# Altium schematic symbol library SCH_Capacitors.SchLib: 13 symbols
Pins are listed as number, name and electrical type; pins without a type are passive.

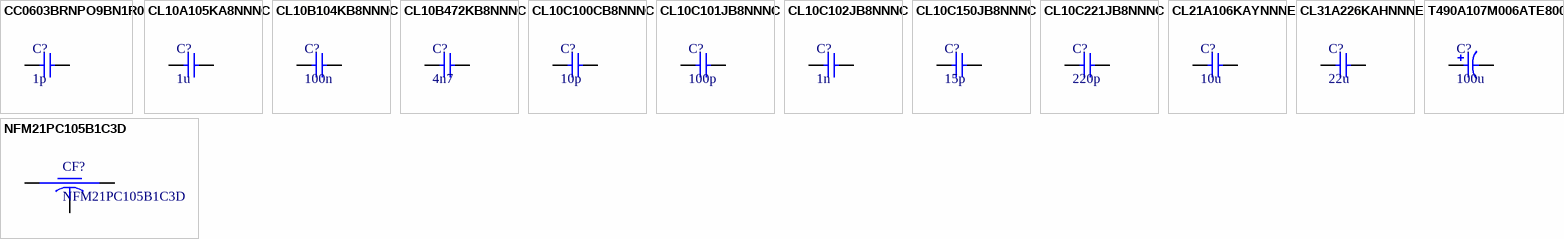
[diagram p0: symbols CC0603BRNPO9BN1R0 to T490A107M006ATE800]

## CC0603BRNPO9BN1R0
designator C?, comment 1p
CAP CER 1PF 50V NPO 0603; Manufacturer: Yageo; Manufacturer Part Number: CC0603BRNPO9BN1R0; Dielectric: C0G; Supplier 1: Digi-Key; RoHS: Yes; Category: Ceramic Capacitors; Stock 1: 35981; Pricing 1: 1=0,10000, 10=0,07700, 50=0,04180, 100=0,03420, 500=0,02442, 1000=0,01919 (USD); Mount: Surface Mount; Case/Package: 0603; Case Code (Imperial): 0603; Case Code (Metric): 1608; Weight: 7.1E-05oz; Min Operating Temperature: -55°C; Max Operating Temperature: 125°C; Capacitance: 1pF; Packaging: Tape and Reel; Voltage Rating: 50V; Voltage Rating (DC): 50V; Termination: SMD/SMT; Resistor Type: Ceramic; Series: CC; Length: 1.6mm; Width: 0.031inch; Thickness: 0.035inch; Depth: 0.8mm; Radiation Hardening: No; Lead Free: Lead Free; RoHS Compliant: Yes; ComponentLink1URL: https://datasheet.ciiva.com/13264/upy-gp-np0-16v-to-50v-8-3714-13264551.pdf?src-supplier=Mouser; ComponentLink1Description: https://datasheet.ciiva.com/13264/upy-gp-np0-16v-to-50v-8-3714-13264551.pdf?src-supplier=Mouser; ComponentLink2URL: https://datasheet.ciiva.com/11587/upy-gp-np0-16v-to-50v-8-11587308.pdf?src-supplier=Avnet; ComponentLink2Description: https://datasheet.ciiva.com/11587/upy-gp-np0-16v-to-50v-8-11587308.pdf?src-supplier=Avnet; Supplier Part Number 1: 311-3346-1-ND
footprint C0603
pins: 1, 2

## CL10A105KA8NNNC
designator C?, comment 1u
CAP CER 1UF 25V X5R 0603; Manufacturer: Samsung; Manufacturer Part Number: CL10A105KA8NNNC; Material: Ceramic; Tolerance: 10%; RoHS: Yes; Category: Ceramic Capacitors; Stock 1: 556306; Pricing 1: 1=0,10000, 10=0,03100, 50=0,01720, 100=0,01400, 500=0,01000, 1000=0,00786 (USD); Mount: Surface Mount; Case/Package: 0603; Case Code (Metric): 1608; Case Code (Imperial): 0603; Contact Plating: Tin; Min Operating Temperature: -55°C; Max Operating Temperature: 85°C; Capacitance: 1uF; Dielectric: X5R; Voltage: 25V; Voltage Rating (DC): 25V; Packaging: Tape and Reel; Package Quantity: 1; Voltage Rating: 25V; Series: CL; Length: 0.063inch; Width: 0.031inch; Height: 0.8mm; Depth: 0.8mm; Thickness: 0.035inch; Radiation Hardening: No; Lead Free: Lead Free; RoHS Compliant: Yes; ComponentLink1URL: https://datasheet.ciiva.com/25801/cl10a105ka8nnnc-25801364.pdf?src-supplier=Digi-Key; ComponentLink1Description: https://datasheet.ciiva.com/25801/cl10a105ka8nnnc-25801364.pdf?src-supplier=Digi-Key; ComponentLink2URL: https://datasheet.ciiva.com/26838/getdatasheetpartid-357530-26838332.pdf?src-supplier=Verical; ComponentLink2Description: https://datasheet.ciiva.com/26838/getdatasheetpartid-357530-26838332.pdf?src-supplier=Verical; ComponentLink3URL: https://datasheet.ciiva.com/29198/458162-da-01-en-vs-kondensator-0603-29198475.pdf?src-supplier=Conrad; ComponentLink3Description: https://datasheet.ciiva.com/29198/458162-da-01-en-vs-kondensator-0603-29198475.pdf?src-supplier=Conrad; Supplier 1: LCSC; Supplier 2: Digi-Key; Supplier Part Number 1: C15849; Supplier Part Number 2: 1276-1102-1-ND
footprint C0603
pins: 1, 2

## CL10B104KB8NNNC
designator C?, comment 100n
CAP CER 100NF 50V X7R 0603; Manufacturer: Samsung; Manufacturer Part Number: CL10B104KB8NNNC; Material: Ceramic; Tolerance: 10%; RoHS: Yes; Category: Ceramic Capacitors; Stock 1: 20397829; Pricing 1: 1=0,10000, 10=0,02700, 50=0,01460, 100=0,01200, 500=0,00856, 1000=0,00672 (USD); Mount: Surface Mount; Case/Package: 0603; Case Code (Metric): 1608; Case Code (Imperial): 0603; Contact Plating: Tin; Min Operating Temperature: -55°C; Max Operating Temperature: 125°C; Capacitance: 100nF; Dielectric: X7R; Voltage Rating: 50V; Package Quantity: 1; Packaging: Tape and Reel; Voltage: 50V; Voltage Rating (DC): 50V; Series: CL; Construction: Flat; Length: 1.6mm; Width: 0.031inch; Height: 0.8mm; Depth: 0.8mm; Thickness: 0.035inch; Radiation Hardening: No; Lead Free: Lead Free; RoHS Compliant: Yes; ComponentLink1URL: https://datasheet.ciiva.com/25803/cl10b104kb8nnnc-25803393.pdf?src-supplier=Digi-Key; ComponentLink1Description: https://datasheet.ciiva.com/25803/cl10b104kb8nnnc-25803393.pdf?src-supplier=Digi-Key; ComponentLink2URL: https://datasheet.ciiva.com/26838/getdatasheetpartid-89097-26838411.pdf?src-supplier=Verical; ComponentLink2Description: https://datasheet.ciiva.com/26838/getdatasheetpartid-89097-26838411.pdf?src-supplier=Verical; ComponentLink3URL: https://datasheet.ciiva.com/29198/456651-da-01-en-vs-kondensator-0605-29198839.pdf?src-supplier=Conrad; ComponentLink3Description: https://datasheet.ciiva.com/29198/456651-da-01-en-vs-kondensator-0605-29198839.pdf?src-supplier=Conrad; Supplier 1: LCSC; Supplier 2: Digi-Key; Supplier Part Number 1: C1591; Supplier Part Number 2: 1276-1000-1-ND
footprint C0603
pins: 1, 2

## CL10B472KB8NNNC
designator C?, comment 4n7
CAP CER 4.7NF 50V X7R 0603; Manufacturer: Samsung; Manufacturer Part Number: CL10B472KB8NNNC; Material: Ceramic; Tolerance: 5%; Dielectric: C0G; Supplier 1: Digi-Key; RoHS: Yes; Category: Ceramic Capacitors; Stock 1: 4684785; Pricing 1: 1=0,10000, 10=0,02700, 50=0,01460, 100=0,01200, 500=0,00856, 1000=0,00672 (USD); Mount: Surface Mount; Case/Package: 0603; Case Code (Metric): 1608; Case Code (Imperial): 0603; Contact Plating: Tin; Min Operating Temperature: -55°C; Max Operating Temperature: 125°C; Capacitance: 4.7nF; Voltage: 50V; Voltage Rating (DC): 50V; Packaging: Tape and Reel; Voltage Rating: 50V; Series: CL; Construction: Flat; Length: 1.6mm; Width: 0.031inch; Height: 0.8mm; Depth: 0.8mm; Thickness: 0.035inch; Radiation Hardening: No; Lead Free: Lead Free; RoHS Compliant: Yes; ComponentLink1URL: https://datasheet.ciiva.com/25709/cl10b472kb8nnnc-25709729.pdf?src-supplier=Digi-Key; ComponentLink1Description: https://datasheet.ciiva.com/25709/cl10b472kb8nnnc-25709729.pdf?src-supplier=Digi-Key; ComponentLink2URL: https://datasheet.ciiva.com/15195/getdatasheetpartid-359559-15195760.pdf?src-supplier=Verical; ComponentLink2Description: https://datasheet.ciiva.com/15195/getdatasheetpartid-359559-15195760.pdf?src-supplier=Verical; ComponentLink3URL: https://datasheet.ciiva.com/29198/457744-da-01-en-vs-kondensator-0603-29198688.pdf?src-supplier=Conrad; ComponentLink3Description: https://datasheet.ciiva.com/29198/457744-da-01-en-vs-kondensator-0603-29198688.pdf?src-supplier=Conrad; ComponentLink4URL: https://datasheet.ciiva.com/26310/mlcc-catalogdownload2013-eng-26310293.pdf?src-supplier=Distrelec; ComponentLink4Description: https://datasheet.ciiva.com/26310/mlcc-catalogdownload2013-eng-26310293.pdf?src-supplier=Distrelec; ComponentLink5URL: https://datasheet.ciiva.com/16382/cl05b104kq5nnnc-16382821.pdf?src-supplier=Future+Electronics; ComponentLink5Description: https://datasheet.ciiva.com/16382/cl05b104kq5nnnc-16382821.pdf?src-supplier=Future+Electronics; Supplier Part Number 1: 1276-1098-1-ND
footprint C0603
pins: 1, 2

## CL10C100CB8NNNC
designator C?, comment 10p
CAP CER 10PF 50V NP0 0603; Manufacturer: Samsung; Manufacturer Part Number: CL10C100CB8NNNC; Material: Ceramic; Dielectric: C0G; Temperature Coefficient: 300ppm/°C; Supplier 1: Digi-Key; RoHS: Yes; Category: Ceramic Capacitors; Stock 1: 241733; Pricing 1: 1=0,10000, 10=0,03000, 50=0,01620, 100=0,01320, 500=0,00944, 1000=0,00742 (USD); Mount: Surface Mount; Case/Package: 0603; Case Code (Metric): 1608; Case Code (Imperial): 0603; Min Operating Temperature: -55°C; Max Operating Temperature: 125°C; Packaging: Tape and Reel; Capacitance: 10pF; Package Quantity: 1; Voltage Rating: 50V; Voltage: 50V; Voltage Rating (DC): 50V; Series: CL; Construction: Flat; Length: 1.6mm; Width: 0.031inch; Height: 0.8mm; Thickness: 0.035inch; Depth: 0.8mm; Radiation Hardening: No; Lead Free: Lead Free; RoHS Compliant: Yes; ComponentLink1URL: https://datasheet.ciiva.com/15195/getdatasheetpartid-558381-15195779.pdf?src-supplier=Verical; ComponentLink1Description: https://datasheet.ciiva.com/15195/getdatasheetpartid-558381-15195779.pdf?src-supplier=Verical; ComponentLink2URL: https://datasheet.ciiva.com/29198/457398-da-01-en-vs-kondensator-0603-29198798.pdf?src-supplier=Conrad; ComponentLink2Description: https://datasheet.ciiva.com/29198/457398-da-01-en-vs-kondensator-0603-29198798.pdf?src-supplier=Conrad; ComponentLink3URL: https://datasheet.ciiva.com/16205/cl05b104kq5nnnc-16205295.pdf?src-supplier=Future+Electronics; ComponentLink3Description: https://datasheet.ciiva.com/16205/cl05b104kq5nnnc-16205295.pdf?src-supplier=Future+Electronics; Supplier Part Number 1: 1276-1069-1-ND
footprint C0603
pins: 1, 2

## CL10C101JB8NNNC
designator C?, comment 100p
CAP CER 100PF 50V NP0 0603; Manufacturer: Samsung; Manufacturer Part Number: CL10C101JB8NNNC; Material: Ceramic; Tolerance: 5%; Dielectric: C0G; Temperature Coefficient: 300ppm/°C; RoHS: Yes; Category: Ceramic Capacitors; Stock 1: 901057; Pricing 1: 1=0,10000, 10=0,02700, 50=0,01500, 100=0,01220, 500=0,00874, 1000=0,00686 (USD); Mount: Surface Mount; Case/Package: 0603; Case Code (Metric): 1608; Case Code (Imperial): 0603; Contact Plating: Tin; Min Operating Temperature: -55°C; Max Operating Temperature: 125°C; Capacitance: 100pF; Voltage: 50V; Voltage Rating (DC): 50V; Packaging: Tape and Reel; Package Quantity: 1; Voltage Rating: 50V; Series: CL; Construction: Flat; Length: 1.6mm; Width: 0.031inch; Height: 0.8mm; Depth: 0.8mm; Thickness: 0.035inch; Radiation Hardening: No; Lead Free: Lead Free; RoHS Compliant: Yes; ComponentLink1URL: https://datasheet.ciiva.com/25782/cl10c101jb8nnnc-25782145.pdf?src-supplier=Digi-Key; ComponentLink1Description: https://datasheet.ciiva.com/25782/cl10c101jb8nnnc-25782145.pdf?src-supplier=Digi-Key; ComponentLink2URL: https://datasheet.ciiva.com/26838/getdatasheetpartid-358356-26838483.pdf?src-supplier=Verical; ComponentLink2Description: https://datasheet.ciiva.com/26838/getdatasheetpartid-358356-26838483.pdf?src-supplier=Verical; ComponentLink3URL: https://datasheet.ciiva.com/29199/456574-da-01-en-vs-kondensator-0603-29199002.pdf?src-supplier=Conrad; ComponentLink3Description: https://datasheet.ciiva.com/29199/456574-da-01-en-vs-kondensator-0603-29199002.pdf?src-supplier=Conrad; ComponentLink4URL: https://datasheet.ciiva.com/26310/mlcc-catalogdownload2013-eng-26310303.pdf?src-supplier=Distrelec; ComponentLink4Description: https://datasheet.ciiva.com/26310/mlcc-catalogdownload2013-eng-26310303.pdf?src-supplier=Distrelec; Supplier 1: LCSC; Supplier 2: Digi-Key; Supplier Part Number 1: C14858; Supplier Part Number 2: 1276-1008-1-ND
footprint C0603
pins: 1, 2

## CL10C102JB8NNNC
designator C?, comment 1n
CAP CER 1NF 50V NP0 0603; Manufacturer: Samsung; Manufacturer Part Number: CL10C102JB8NNNC; Material: Ceramic; Tolerance: 5%; Dielectric: C0G; Temperature Coefficient: 300ppm/°C; Supplier 1: Digi-Key; RoHS: Yes; Category: Ceramic Capacitors; Stock 1: 2570050; Pricing 1: 1=0,10000, 10=0,03000, 50=0,01640, 100=0,01330, 500=0,00950, 1000=0,00747 (USD); Mount: Surface Mount; Case/Package: 0603; Case Code (Metric): 1608; Case Code (Imperial): 0603; Min Operating Temperature: -55°C; Max Operating Temperature: 125°C; Capacitance: 1nF; Voltage: 50V; Voltage Rating (DC): 50V; Voltage Rating: 50V; Packaging: Tape and Reel; Package Quantity: 1; Series: CL; Length: 1.6mm; Width: 0.031inch; Height: 0.8mm; Depth: 0.8mm; Thickness: 0.035inch; Radiation Hardening: No; Lead Free: Lead Free; RoHS Compliant: Yes; ComponentLink1URL: https://datasheet.ciiva.com/15195/getdatasheetpartid-354056-15195790.pdf?src-supplier=Verical; ComponentLink1Description: https://datasheet.ciiva.com/15195/getdatasheetpartid-354056-15195790.pdf?src-supplier=Verical; ComponentLink2URL: https://datasheet.ciiva.com/29198/458273-da-01-en-vs-kondensator-0603-29198494.pdf?src-supplier=Conrad; ComponentLink2Description: https://datasheet.ciiva.com/29198/458273-da-01-en-vs-kondensator-0603-29198494.pdf?src-supplier=Conrad; ComponentLink3URL: https://datasheet.ciiva.com/26310/mlcc-catalogdownload2013-eng-26310329.pdf?src-supplier=Distrelec; ComponentLink3Description: https://datasheet.ciiva.com/26310/mlcc-catalogdownload2013-eng-26310329.pdf?src-supplier=Distrelec; Supplier Part Number 1: 1276-1091-1-ND
footprint C0603
pins: 1, 2

## CL10C150JB8NNNC
designator C?, comment 15p
CAP CER 15PF 50V NP0 0603; Manufacturer: Samsung; Manufacturer Part Number: CL10C150JB8NNNC; Material: Ceramic; Tolerance: 5%; Dielectric: C0G; Temperature Coefficient: 300ppm/°C; RoHS: Yes; Category: Ceramic Capacitors; Stock 1: 180480; Pricing 1: 1=0,10000, 10=0,04400, 50=0,02380, 100=0,01940, 500=0,01386, 1000=0,01089 (USD); Mount: Surface Mount; Case/Package: 0603; Case Code (Metric): 1608; Case Code (Imperial): 0603; Contact Plating: Tin; Min Operating Temperature: -55°C; Max Operating Temperature: 125°C; Capacitance: 15pF; Voltage Rating (DC): 50V; Packaging: Tape and Reel; Voltage Rating: 50V; Voltage: 50V; Series: CL; Construction: Flat; Length: 1.6mm; Width: 0.031inch; Height: 0.8mm; Thickness: 0.035inch; Depth: 0.8mm; Radiation Hardening: No; Lead Free: Lead Free; RoHS Compliant: Yes; ComponentLink1URL: https://datasheet.ciiva.com/15195/getdatasheetpartid-466951-15195798.pdf?src-supplier=Verical; ComponentLink1Description: https://datasheet.ciiva.com/15195/getdatasheetpartid-466951-15195798.pdf?src-supplier=Verical; ComponentLink2URL: https://datasheet.ciiva.com/29198/457290-da-01-en-vs-kondensator-0603-29198776.pdf?src-supplier=Conrad; ComponentLink2Description: https://datasheet.ciiva.com/29198/457290-da-01-en-vs-kondensator-0603-29198776.pdf?src-supplier=Conrad; ComponentLink3URL: https://datasheet.ciiva.com/16291/cl05b104kq5nnnc-16291631.pdf?src-supplier=Future+Electronics; ComponentLink3Description: https://datasheet.ciiva.com/16291/cl05b104kq5nnnc-16291631.pdf?src-supplier=Future+Electronics; Supplier 1: LCSC; Supplier 2: Digi-Key; Supplier Part Number 1: C1644; Supplier Part Number 2: 1276-1296-1-ND
footprint C0603
pins: 1, 2

## CL10C221JB8NNNC
designator C?, comment 220p
CAP CER 220PF 50V NP0 0603; Manufacturer: Samsung; Manufacturer Part Number: CL10C221JB8NNNC; Material: Ceramic; Tolerance: 5%; Dielectric: C0G; Temperature Coefficient: 300ppm/°C; Supplier 1: Digi-Key; RoHS: Yes; Category: Ceramic Capacitors; Stock 1: 270558; Pricing 1: 1=0,10000, 10=0,03200, 50=0,01740, 100=0,01420, 500=0,01012, 1000=0,00794 (USD); Mount: Surface Mount; Case/Package: 0603; Case Code (Metric): 1608; Case Code (Imperial): 0603; Contact Plating: Tin; Min Operating Temperature: -55°C; Max Operating Temperature: 125°C; Capacitance: 220pF; Voltage: 50V; Voltage Rating (DC): 50V; Voltage Rating: 50V; Package Quantity: 1; Packaging: Tape and Reel; Length: 1.6mm; Width: 0.031inch; Height: 0.8mm; Depth: 0.8mm; Thickness: 0.035inch; Radiation Hardening: No; Lead Free: Lead Free; RoHS Compliant: Yes; ComponentLink1URL: https://datasheet.ciiva.com/26838/getdatasheetpartid-355186-26838508.pdf?src-supplier=Verical; ComponentLink1Description: https://datasheet.ciiva.com/26838/getdatasheetpartid-355186-26838508.pdf?src-supplier=Verical; ComponentLink2URL: https://datasheet.ciiva.com/29198/456419-da-01-en-vs-kondensator-0603-29198975.pdf?src-supplier=Conrad; ComponentLink2Description: https://datasheet.ciiva.com/29198/456419-da-01-en-vs-kondensator-0603-29198975.pdf?src-supplier=Conrad; Supplier Part Number 1: 1276-1048-1-ND
footprint C0603
pins: 1, 2

## CL21A106KAYNNNE
designator C?, comment 10u
CAP CER 10UF 25V X5R 0805; Manufacturer: Samsung; Manufacturer Part Number: CL21A106KAYNNNE; Tolerance: 10%; RoHS: Yes; Category: Ceramic Capacitors; Stock 1: 1536667; Pricing 1: 1=0,18000, 10=0,12800, 50=0,07280, 100=0,06030, 500=0,04230, 1000=0,03501 (USD); Mount: Surface Mount; Case/Package: 0805; Case Code (Metric): 2012; Case Code (Imperial): 0805; Min Operating Temperature: -55°C; Max Operating Temperature: 85°C; Package Quantity: 1; Packaging: Tape and Reel; Capacitance: 10uF; Voltage Rating: 25V; Dielectric: X5R; Series: CL; Construction: Flat; Length: 2mm; Width: 0.049inch; Height: 1.25mm; Depth: 1.25mm; Thickness: 0.057inch; Radiation Hardening: No; RoHS Compliant: Yes; ComponentLink1URL: https://datasheet.ciiva.com/25796/cl21a106kaynnne-25796720.pdf?src-supplier=Digi-Key; ComponentLink1Description: https://datasheet.ciiva.com/25796/cl21a106kaynnne-25796720.pdf?src-supplier=Digi-Key; ComponentLink2URL: https://datasheet.ciiva.com/26838/getdatasheetpartid-357558-26838583.pdf?src-supplier=Verical; ComponentLink2Description: https://datasheet.ciiva.com/26838/getdatasheetpartid-357558-26838583.pdf?src-supplier=Verical; Supplier 1: LCSC; Supplier 2: Digi-Key; Supplier Part Number 1: C15850; Supplier Part Number 2: 1276-2891-1-ND
footprint C0805
pins: 1, 2

## CL31A226KAHNNNE
designator C?, comment 22u
CAP CER 22UF 25V X5R 1206; Manufacturer: Samsung; Manufacturer Part Number: CL31A226KAHNNNE; Material: Ceramic; Tolerance: 10%; Supplier 1: Digi-Key; RoHS: Yes; Category: Ceramic Capacitors; Stock 1: 2536523; Pricing 1: 1=0,36000, 10=0,25100, 50=0,17580, 100=0,15070, 500=0,11304, 1000=0,09545 (USD); Mount: Surface Mount; Case/Package: 1206; Case Code (Metric): 3216; Case Code (Imperial): 1206; Contact Plating: Tin; Min Operating Temperature: -55°C; Max Operating Temperature: 85°C; Capacitance: 22uF; Dielectric: X5R; Package Quantity: 1; Packaging: Tape and Reel; Voltage Rating: 25V; Series: CL; Construction: Flat; Length: 3.2mm; Width: 0.063inch; Height: 1.6mm; Thickness: 0.071inch; Depth: 1.6mm; Radiation Hardening: No; RoHS Compliant: Yes; ComponentLink1URL: https://datasheet.ciiva.com/25766/cl31a226kahnnne-25766608.pdf?src-supplier=Digi-Key; ComponentLink1Description: https://datasheet.ciiva.com/25766/cl31a226kahnnne-25766608.pdf?src-supplier=Digi-Key; ComponentLink2URL: https://datasheet.ciiva.com/16437/cl31a226kahnnne-16437213.pdf?src-supplier=Future+Electronics; ComponentLink2Description: https://datasheet.ciiva.com/16437/cl31a226kahnnne-16437213.pdf?src-supplier=Future+Electronics; ComponentLink3URL: https://datasheet.ciiva.com/26838/getdatasheetpartid-359658-26838860.pdf?src-supplier=Verical; ComponentLink3Description: https://datasheet.ciiva.com/26838/getdatasheetpartid-359658-26838860.pdf?src-supplier=Verical; ComponentLink4URL: https://datasheet.ciiva.com/29201/452249-da-01-en-vs-kondensator-1206-29201336.pdf?src-supplier=Conrad; ComponentLink4Description: https://datasheet.ciiva.com/29201/452249-da-01-en-vs-kondensator-1206-29201336.pdf?src-supplier=Conrad; Supplier Part Number 1: 1276-3047-1-ND
footprint C1206
pins: 1, 2

## NFM21PC105B1C3D
designator CF?
CAP FEEDTHRU 1UF 20% 16V 0805; Manufacturer: Murata; Max Current Rating: 4A; DC Resistance (DCR): 20mR; Insulation Resistance: 500MR; Supplier 1: LCSC; Manufacturer Part Number: NFM21PC105B1C3D; RoHS: Yes; Category: Filters; Stock 1: 29420; Pricing 1: 5=0,10280, 50=0,08510, 150=0,07630, 500=0,06210, 2500=0,05750, 4000=0,05500 (USD); Mount: Surface Mount,PCB; Case/Package: 0805; Case Code (Metric): 2012; Case Code (Imperial): 0805; Min Operating Temperature: -40°C; Max Operating Temperature: 85°C; Max Voltage Rating (DC): 16V; Termination: Flat; Packaging: Tape and Reel; Tolerance: 20%; Package Quantity: 1; Current Rating: 4A; Voltage Rating: 16V; Capacitance: 1uF; Voltage Rating (DC): 16V; Voltage: 16V; Current: 4A; Series: EMIFIL®, NFM21PC; Length: 2mm; Width: 1.25mm; Height: 0.85mm; Depth: 1.25mm; Radiation Hardening: No; Reach SVHC Compliant: Yes; Lead Free: Lead Free; RoHS Compliant: Yes; ComponentLink1URL: https://datasheet.ciiva.com/18093/getdatasheetpartid-153000-18093088.pdf?src-supplier=Verical; ComponentLink1Description: https://datasheet.ciiva.com/18093/getdatasheetpartid-153000-18093088.pdf?src-supplier=Verical; ComponentLink2URL: https://datasheet.ciiva.com/11795/0900766b80af73fd-11795509.pdf?src-supplier=Rs; ComponentLink2Description: https://datasheet.ciiva.com/11795/0900766b80af73fd-11795509.pdf?src-supplier=Rs; ComponentLink3URL: https://datasheet.ciiva.com/41649/90770-41649573.pdf?src-supplier=Farnell; ComponentLink3Description: https://datasheet.ciiva.com/41649/90770-41649573.pdf?src-supplier=Farnell; ComponentLink4URL: https://datasheet.ciiva.com/1469/1852654-1469126.pdf?src-supplier=Element14; ComponentLink4Description: https://datasheet.ciiva.com/1469/1852654-1469126.pdf?src-supplier=Element14; ComponentLink5URL: https://datasheet.ciiva.com/1469/1852654-1469127.pdf?src-supplier=Element14; ComponentLink5Description: https://datasheet.ciiva.com/1469/1852654-1469127.pdf?src-supplier=Element14; ComponentLink6URL: https://datasheet.ciiva.com/6213/nfm21p-series-6213962.pdf?src-supplier=Digi-Key; ComponentLink6Description: https://datasheet.ciiva.com/6213/nfm21p-series-6213962.pdf?src-supplier=Digi-Key; ComponentLink7URL: https://datasheet.ciiva.com/6213/nfm21p-series-6213959.pdf?src-supplier=Digi-Key; ComponentLink7Description: https://datasheet.ciiva.com/6213/nfm21p-series-6213959.pdf?src-supplier=Digi-Key; ComponentLink8URL: https://datasheet.ciiva.com/6213/nfm21p-series-6213964.pdf?src-supplier=Digi-Key; ComponentLink8Description: https://datasheet.ciiva.com/6213/nfm21p-series-6213964.pdf?src-supplier=Digi-Key; Supplier Part Number 1: C92518
footprint CF0805
pins: 1, 2, 3

## T490A107M006ATE800
designator C?, comment 100u
CAP TANT 100UF 6.3V 20% 1206; Manufacturer: KEMET; Manufacturer Part Number: T490A107M006ATE800; ESR (Equivalent Series Resistance): 800mR; RoHS: Yes; Category: Tantalum Capacitors; Stock 1: 8150; Pricing 1: 1=0,86000, 10=0,65500, 50=0,54380, 100=0,46830, 500=0,36252, 1000=0,31217 (USD); Case/Package: 1206; Min Operating Temperature: -55°C; Max Operating Temperature: 40°C; Capacitance: 100uF; Tolerance: 20%; Length: 3.2mm; Height: 1.6mm; RoHS Compliant: Yes; ComponentLink1URL: http://www.farnell.com/datasheets/2319485.pdf?src-supplier=Farnell; ComponentLink1Description: http://www.farnell.com/datasheets/2319485.pdf?src-supplier=Farnell; ComponentLink2URL: https://api.kemet.com/component-edge/download/datasheet/T490A107M006ATE800.pdf?src-supplier=Digi-Key; ComponentLink2Description: https://api.kemet.com/component-edge/download/datasheet/T490A107M006ATE800.pdf?src-supplier=Digi-Key; ComponentLink3URL: http://capacitoredge.kemet.com/capedge2/DataSheet/Datasheet-T490A107M006ATE800.pdf?pn=T490A107M006ATE800&src-supplier=Avnet; ComponentLink3Description: http://capacitoredge.kemet.com/capedge2/DataSheet/Datasheet-T490A107M006ATE800.pdf?pn=T490A107M006ATE800&src-supplier=Avnet; Supplier 1: LCSC; Supplier 2: Digi-Key; Supplier Part Number 1: C122251; Supplier Part Number 2: 399-18374-1-ND; Voltage: 6.3V
footprint CP1206
pins: +, -